# EAGLE library part DS05 (library Switch)
DIL/CODE SWITCH
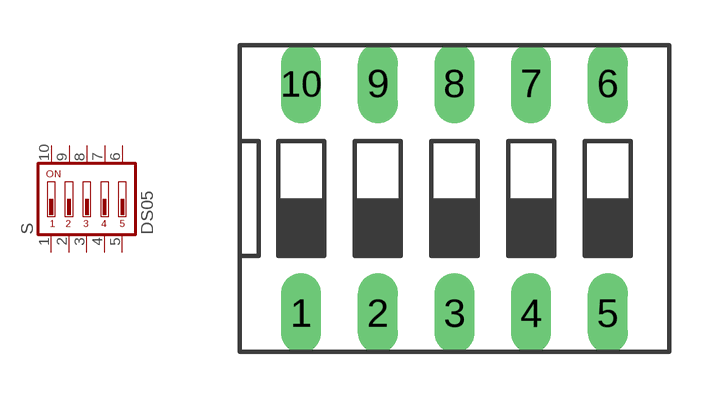
[diagram p4: symbol with the pads of DS-05; footprint DS-05]

Designator prefix S

## DS05 (CATEGORY: SWITCH; MPN: MCNDS-05-V; TYPE: SPST; VALUE: DS-05)  [DS-05]
1  1  pas
2  2  pas
3  3  pas
4  4  pas
5  5  pas
6  6  pas
7  7  pas
8  8  pas
9  9  pas
10  10  pas

## Footprint DS-05 (pad centres in mm)
DIL/CODE SWITCH Mors distributor Buerklin, 17G556
drill 0.813 long: 1 -5.08,-3.81; 2 -2.54,-3.81; 3 0,-3.81; 4 2.54,-3.81; 5 5.08,-3.81; 6 5.08,3.81; 7 2.54,3.81; 8 0,3.81; 9 -2.54,3.81; 10 -5.08,3.81